# EAGLE library part AD7714 (library analog-devices)
Signal Conditioning ADC 3 V/5 V, CMOS, 500 mA Source: http://www.analog.com/UploadedFiles/Data_Sheets/39677768AD7714_c.pdf
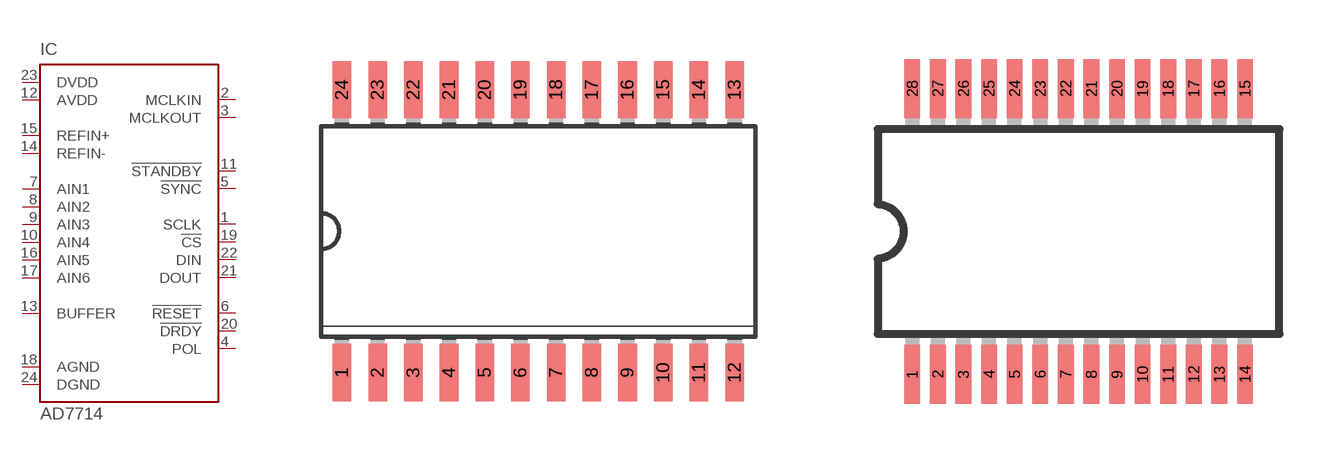
[diagram p128: symbol with the pads of SO24R; footprints SO24R, SSOP28]

Designator prefix IC

## AD7714R-24 (OC_FARNELL: unknown; OC_NEWARK: unknown)  [SO24R]
1  SCLK  in
2  MCLKIN  in
3  MCLKOUT  out
4  POL  in
5  !SYNC  in
6  !RESET  in
7  AIN1  in
8  AIN2  in
9  AIN3  in
10  AIN4  in
11  !STANDBY  in
12  AVDD  in
13  BUFFER  in
14  REFIN-  in
15  REFIN+  in
16  AIN5  in
17  AIN6  in
18  AGND  in
19  !CS  in
20  !DRDY  in
21  DOUT  out
22  DIN  in
23  DVDD  in
24  DGND  in

## AD7714RS-28 (MF: ALTERA CORPORATION; MPN: AD7714ARS-3; OC_FARNELL: 1423921; OC_NEWARK: 52F2117)  [SSOP28]
1  SCLK  in
2  MCLKIN  in
3  MCLKOUT  out
4  POL  in
5  !SYNC  in
6  !RESET  in
9  AIN1  in
10  AIN2  in
11  AIN3  in
12  AIN4  in
13  !STANDBY  in
14  AVDD  in
15  BUFFER  in
16  REFIN-  in
17  REFIN+  in
18  AIN5  in
19  AIN6  in
20  AGND  in
23  !CS  in
24  !DRDY  in
25  DOUT  out
26  DIN  in
27  DVDD  in
28  DGND  in

## AD7714RU-24 (MPN: AD7714YRUZ; OC_FARNELL: 1438857; OC_NEWARK: 19M8848)  [TSSOP24]
Pads as for SO24R

## AD7714N-24 (MF: ALTERA CORPORATION; MPN: AD7714AN-5; OC_FARNELL: unknown; OC_NEWARK: 66F5871)  [DIL24-3]
Pads as for SO24R

## Footprint SO24R (pad centres in mm)
24-Lead Wide Body SOIC (R-24) Source: http://www.analog.com/UploadedFiles/Data_Sheets/39677768AD7714_c.pdf
smd 0.66 x 2.032: 1 -6.985,-5.029; 2 -5.715,-5.029; 3 -4.445,-5.029; 4 -3.175,-5.029; 5 -1.905,-5.029; 6 -0.635,-5.029; 7 0.635,-5.029; 8 1.905,-5.029; 9 3.175,-5.029; 10 4.445,-5.029; 11 5.715,-5.029; 12 6.985,-5.029; 13 6.985,5.029; 14 5.715,5.029; 15 4.445,5.029; 16 3.175,5.029; 17 1.905,5.029; 18 0.635,5.029; 19 -0.635,5.029; 20 -1.905,5.029; 21 -3.175,5.029; 22 -4.445,5.029; 23 -5.715,5.029; 24 -6.985,5.029

## Footprint SSOP28 (pad centres in mm)
28-Lead Shrink Small Outline Package SSOP (RS-28) Source: http://www.analog.com/UploadedFiles/Data_Sheets/39677768AD7714_c.pdf
smd 0.4 x 1.5: 1 -4.225,-3.625; 2 -3.575,-3.625; 3 -2.925,-3.625; 4 -2.275,-3.625; 5 -1.625,-3.625; 6 -0.975,-3.625; 7 -0.325,-3.625; 8 0.325,-3.625; 9 0.975,-3.625; 10 1.625,-3.625; 11 2.275,-3.625; 12 2.925,-3.625; 13 3.575,-3.625; 14 4.225,-3.625; 15 4.225,3.625; 16 3.575,3.625; 17 2.925,3.625; 18 2.275,3.625; 19 1.625,3.625; 20 0.975,3.625; 21 0.325,3.625; 22 -0.325,3.625; 23 -0.975,3.625; 24 -1.625,3.625; 25 -2.275,3.625; 26 -2.925,3.625; 27 -3.575,3.625; 28 -4.225,3.625

## Footprint TSSOP24 (pad centres in mm)
24-Lead Thin Shrink Small Outline Package TSSOP (RU-24) Source: http://www.analog.com/UploadedFiles/Data_Sheets/39677768AD7714_c.pdf
smd 0.305 x 0.991: 1 -3.575,-2.918; 2 -2.925,-2.918; 3 -2.275,-2.918; 4 -1.625,-2.918; 5 -0.975,-2.918; 6 -0.325,-2.918; 7 0.325,-2.918; 8 0.975,-2.918; 9 1.625,-2.918; 10 2.275,-2.918; 11 2.925,-2.918; 12 3.575,-2.918; 13 3.575,2.918; 14 2.925,2.918; 15 2.275,2.918; 16 1.625,2.918; 17 0.975,2.918; 18 0.325,2.918; 19 -0.325,2.918; 20 -0.975,2.918; 21 -1.625,2.918; 22 -2.275,2.918; 23 -2.925,2.918; 24 -3.575,2.918

## Footprint DIL24-3 (pad centres in mm)
Dual In Line Package 0.3 inch
drill 0.813 long: 1 -13.97,-3.81; 2 -11.43,-3.81; 3 -8.89,-3.81; 4 -6.35,-3.81; 5 -3.81,-3.81; 6 -1.27,-3.81; 7 1.27,-3.81; 8 3.81,-3.81; 9 6.35,-3.81; 10 8.89,-3.81; 11 11.43,-3.81; 12 13.97,-3.81; 13 13.97,3.81; 14 11.43,3.81; 15 8.89,3.81; 16 6.35,3.81; 17 3.81,3.81; 18 1.27,3.81; 19 -1.27,3.81; 20 -3.81,3.81; 21 -6.35,3.81; 22 -8.89,3.81; 23 -11.43,3.81; 24 -13.97,3.81